# Altium footprint library LAB3+.PcbLib: 3 footprints
Each footprint in its own frame and in the unit in brackets; x right, y up, seen from the top. Pads: shape width x height; smd on the part's side, far side on the other; paste and mask are expansions set on the pad; w line width, h text height; cw(c..) or ccw(c..) is an arc to the next point about the centre after c.
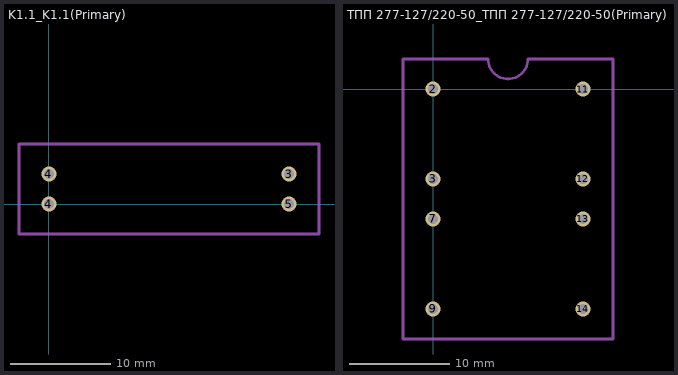
[diagram p0: the footprints below, top view; thin cyan lines are the x and y axes]

## K1.1_K1.1(Primary) [mil]
pads (4):
  round 60 hole 38: 3(944.88,118.11) 4(0,0) 4(0,118.11) 5(944.88,0)
Mechanical 1:
  lines w10: -118.11,-118.11 1062.99,-118.11 1062.99,236.22 -118.11,236.22 -118.11,-118.11

## PCBComponent_1 [mil]

## ТПП 277-127/220-50_ТПП 277-127/220-50(Primary) [mil]
pads (8):
  round 60 hole 38: 2(0,0) 3(0,-354.33) 7(0,-511.81) 9(0,-866.14) 11(590.55,0) 12(590.55,-354.33) 13(590.55,-511.81) 14(590.55,-866.14)
Mechanical 1:
  lines w10: -118.11,-984.25 708.66,-984.25 708.66,118.11 374.02,118.11 cw(c295.28,118.11) 216.54,118.11 -118.11,118.11 -118.11,-984.25